# Altium footprint library VL820.PcbLib: 42 footprints (part 2 of 3)
Each footprint in its own frame and in the unit in brackets; x right, y up, seen from the top. Pads: shape width x height; smd on the part's side, far side on the other; paste and mask are expansions set on the pad; w line width, h text height; cw(c..) or ccw(c..) is an arc to the next point about the centre after c.
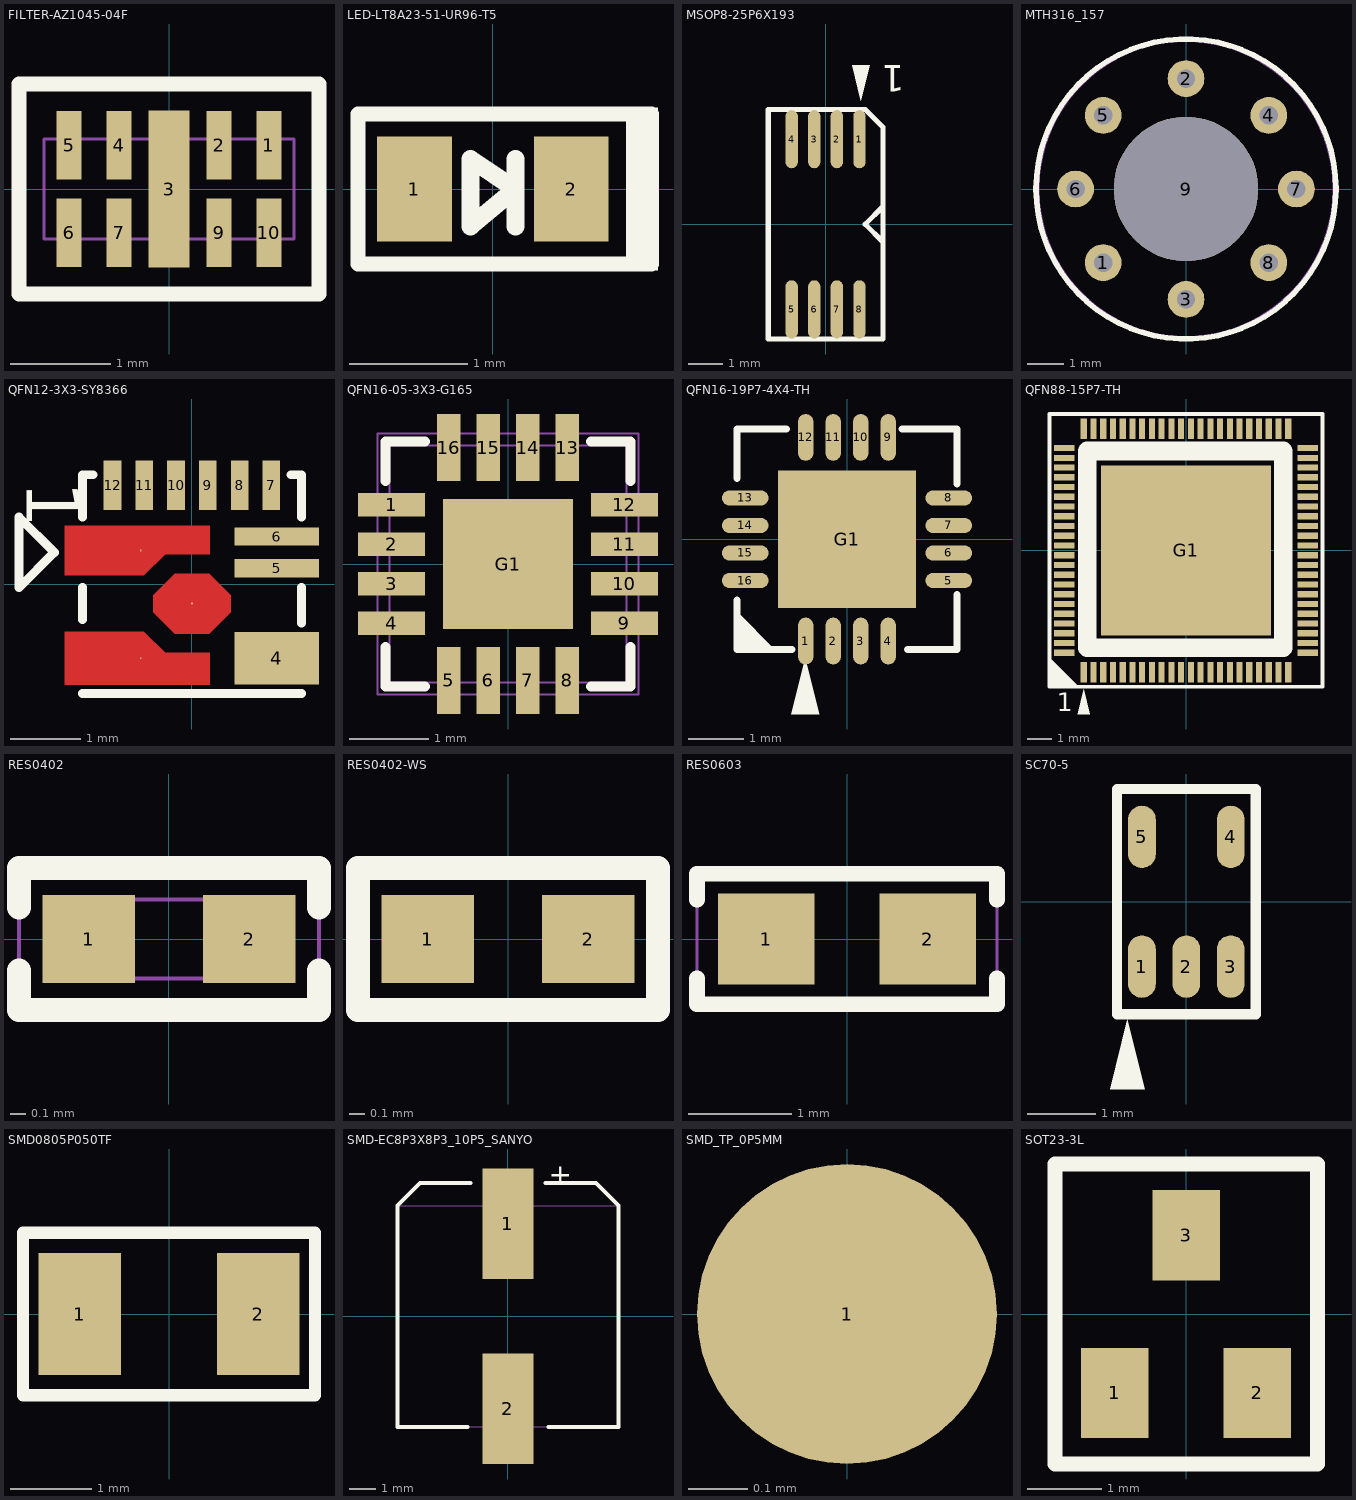
[diagram p1: the footprints below, top view; thin cyan lines are the x and y axes]

## FILTER-AZ1045-04F [mil] "FILTER-AZ1045-04F"
pads (9):
  rect 10x27 smd: 1(39.37,17.22) 2(19.68,17.22) 4(-19.68,17.22) 5(-39.37,17.22) 6(-39.37,-17.22) 7(-19.68,-17.22) 9(19.68,-17.22) 10(39.37,-17.22)
  rect 16x62 smd: 3(0,0)
Top Overlay:
  lines w6: -59.05,0 -59.05,41.34 59.05,41.34 59.05,0 ; -59.05,1.97 -59.05,-41.34 59.05,-41.34 59.05,0.39
Mechanical 8:
  text "v" at 0,8 h20
Mechanical 14:
  text "9" at 19.68,-13.22 h10
  text "2" at 19.68,21.22 h10
  text "1" at 39.37,21.22 h10
  text "6" at -39.37,-13.22 h10
  text "5" at -39.37,21.22 h10
  text "7" at -19.68,-13.22 h10
  text "4" at -19.68,21.22 h10
  text "3" at 3.94,25.32 h10
Mechanical 16:
  lines w1: -49.21,-19.68 -49.21,19.68 49.21,19.68 49.21,-19.68 -49.21,-19.68
3D body "User Library-RCLAMP0524-SLP2510P8.step": height 21.85, standoff -1.16, extent -49.21,-19.88 49.22,19.89

## LED-LT8A23-51-UR96-T5 [mm] "LED-LT8A23-51-UR96-T5"
pads (2):
  rect 0.635x0.889 smd: 1(-0.665,0) 2(0.665,0)
Top Overlay:
  dashed: 1.13,0.69 1.13,-0.69 1.4,-0.69 1.4,0.69
  lines w0.127: -1.143,-0.635 -1.143,0.635 1.343,0.635 1.343,-0.635 -1.143,-0.635
  lines w0.152: 0.191,-0.318 0.191,0.254 ; -0.191,-0.318 0.191,0 -0.191,0.254 -0.191,-0.318
Mechanical 14:
  text "1" at -0.665,-0.102 h0.25
  text "2" at 0.665,-0.102 h0.25
Mechanical 15:
  lines w0.025: -1.143,-0.635 -1.143,0.635 1.143,0.635 1.143,-0.635 -1.143,-0.635
3D body "User Library-SML-LX0603GW-TR.step": height 0.6, standoff 0, extent -0.851,-0.4 0.749,0.4

## MSOP8-25P6X193 [mil] "MSOP8-25P6X193"
pads (8):
  oval 14x66 smd: 1(38.39,96.46) 2(12.8,96.46) 3(-12.8,96.46) 4(-38.39,96.46) 5(-38.39,-96.46) 6(-12.8,-96.46) 7(12.8,-96.46) 8(38.39,-96.46)
Top Overlay:
  dashed: 40,140 50,180 30,180
  lines w6: 65,-20 45,0 65,20 ; -65,-130 65,-130 65,110 45,130 -65,130 -65,-130
  text "1" at 90,180 h30
Mechanical 10:
  text "v" at -4,0 h10
Mechanical 14:
  text "2" at 8.8,96.46 h10
  text "3" at -16.8,96.46 h10
  text "5" at -42.39,-96.46 h10
  text "4" at -42.39,96.46 h10
  text "1" at 34.39,96.46 h10
  text "6" at -16.8,-96.46 h10
  text "7" at 8.8,-96.46 h10
  text "8" at 34.39,-96.46 h10
Mechanical 16:
  lines w1: -65,-130 65,-130 65,110 45,130 -65,130 -65,-130
Mechanical 17:
  text "MSOP8-25P6X193" at 45,0 h10
3D body "User Library-MSOP8-5X3-0.65Pitch-TI.stp": height 38, standoff 0, extent -58.99,-91.5 59,101.5

## MTH316_157 [mil] "MTH316_157"
pads (9):
  round 40 hole 20: 1(-90,-80) 2(0,120) 3(0,-120) 4(90,80) 5(-90,80) 6(-120,0) 7(120,0) 8(90,-80)
  round 157 hole 157 unplated: 9(0,0)
Top Overlay:
  circle w6: c0,0 r163
Mechanical 9:
  text "V" at -20,0 h50
Mechanical 14:
  text "1" at -100,-80 h25
  text "8" at 80,-80 h25
  text "3" at -10,-120 h25
  text "6" at -130,0 h25
  text "5" at -100,80 h25
  text "4" at 80,80 h25
  text "2" at -10,120 h25
  text "7" at 110,0 h25
  text "9" at -10,0 h25
Mechanical 15:
  circle w1: c0,0 r160
3D body "t2crrhms_unc_5_40_0_25_0_25.stp": height 95.9, standoff -246.06, extent -117.99,-117.99 118.01,118.01

## QFN12-3X3-SY8366 [mm] "QFN12-3X3-SY8366"
pads (12):
  oct 0.025x0.025 smd: 1(-0.725,0.475) 2(0,-0.275) 3(-0.725,-1.05)
  rect 1.2x0.75 smd: 4(1.2,-1.05)
  rect 1.2x0.26 smd: 5(1.2,0.225) 6(1.2,0.675)
  rect 0.25x0.7 smd: 7(1.125,1.4) 8(0.675,1.4) 9(0.225,1.4) 10(-0.225,1.4) 11(-0.675,1.4) 12(-1.125,1.4)
Top Layer:
  region: -1.8,-1.425 -1.8,-0.675 -0.68,-0.675 -0.38,-0.975 0.25,-0.975 0.25,-1.425
  region: -1.8,-1.425 -1.8,-0.675 -0.68,-0.675 -0.38,-0.975 0.25,-0.975 0.25,-1.425
  region: -0.245,0.15 -0.55,-0.155 -0.55,-0.396 -0.245,-0.7 0.245,-0.7 0.55,-0.396 0.55,-0.155 0.245,0.15
  region: -0.245,0.15 -0.55,-0.155 -0.55,-0.396 -0.245,-0.7 0.245,-0.7 0.55,-0.396 0.55,-0.155 0.245,0.15
  region: -1.8,0.825 -1.8,0.125 -0.68,0.125 -0.38,0.425 0.25,0.425 0.25,0.825
  region: -1.8,0.825 -1.8,0.125 -0.68,0.125 -0.38,0.425 0.25,0.425 0.25,0.825
Top Overlay:
  lines w0.127: -1.55,-1.55 1.55,-1.55 ; -1.55,-0.5 -1.55,-0.05 ; -1.55,0.95 -1.55,1.55 -1.4,1.55 ; 1.4,1.55 1.55,1.55 1.55,0.95 ; 1.55,-0.55 1.55,-0.05 ; -2.45,-0.05 -1.95,0.45 -2.45,0.95 -2.45,-0.05
  text "1" at -2.34,1.459 h0.76
Top Paste:
  dashed: -1.8,-1.425 -1.8,-0.675 -0.68,-0.675 -0.38,-0.975 0.25,-0.975 0.25,-1.425
  dashed: -1.8,-1.425 -1.8,-0.675 -0.68,-0.675 -0.38,-0.975 0.25,-0.975 0.25,-1.425
  dashed: -0.245,0.15 -0.55,-0.155 -0.55,-0.396 -0.245,-0.7 0.245,-0.7 0.55,-0.396 0.55,-0.155 0.245,0.15
  dashed: -0.245,0.15 -0.55,-0.155 -0.55,-0.396 -0.245,-0.7 0.245,-0.7 0.55,-0.396 0.55,-0.155 0.245,0.15
  dashed: -1.8,0.825 -1.8,0.125 -0.68,0.125 -0.38,0.425 0.25,0.425 0.25,0.825
  dashed: -1.8,0.825 -1.8,0.125 -0.68,0.125 -0.38,0.425 0.25,0.425 0.25,0.825
Top Solder:
  dashed: -1.85,-1.475 -1.85,-0.625 -0.63,-0.625 -0.33,-0.925 0.3,-0.925 0.3,-1.475
  dashed: -1.85,-1.475 -1.85,-0.625 -0.63,-0.625 -0.33,-0.925 0.3,-0.925 0.3,-1.475
  dashed: -0.296,0.2 -0.6,-0.104 -0.6,-0.446 -0.296,-0.75 0.296,-0.75 0.6,-0.446 0.6,-0.104 0.296,0.2
  dashed: -0.296,0.2 -0.6,-0.104 -0.6,-0.446 -0.296,-0.75 0.296,-0.75 0.6,-0.446 0.6,-0.104 0.296,0.2
  dashed: -1.85,0.875 -1.85,0.075 -0.63,0.075 -0.33,0.375 0.3,0.375 0.3,0.875
  dashed: -1.85,0.875 -1.85,0.075 -0.63,0.075 -0.33,0.375 0.3,0.375 0.3,0.875
Mechanical 14:
  text "4" at 1.2,-0.948 h0.25
  text "5" at 1.2,0.327 h0.25
  text "6" at 1.2,0.777 h0.25
  text "1" at -0.725,0.577 h0.25
  text "3" at -0.725,-0.948 h0.25
  text "12" at -1.125,1.603 h0.25
  text "10" at -0.225,1.603 h0.25
  text "9" at 0.225,1.502 h0.25
  text "7" at 1.125,1.502 h0.25
  text "2" at 0,-0.173 h0.25
  text "11" at -0.675,1.603 h0.25
  text "8" at 0.675,1.502 h0.25
3D body: height 0.9, standoff 0, extent -1.8,-1.397 1.778,1.778

## QFN16-05-3X3-G165 [mm] "QFN16-05-3X3-G165"
pads (17):
  rect 0.85x0.3 smd: 1(-1.475,0.75) 2(-1.475,0.25) 3(-1.475,-0.25) 4(-1.475,-0.75) 9(1.475,-0.75) 10(1.475,-0.25) 11(1.475,0.25) 12(1.475,0.75)
  rect 0.3x0.85 smd: 5(-0.75,-1.475) 6(-0.25,-1.475) 7(0.25,-1.475) 8(0.75,-1.475) 13(0.75,1.475) 14(0.25,1.475) 15(-0.25,1.475) 16(-0.75,1.475)
  rect 1.65x1.65 smd: G1(0,0)
Top Overlay:
  lines w0.127: -1.55,-1.05 -1.55,-1.55 -1.05,-1.55 ; -1.55,1.05 -1.55,1.55 -1.05,1.55 ; 1.05,-1.55 1.55,-1.55 1.55,-1.05 ; 1.05,1.55 1.55,1.55 1.55,1.05
Mechanical 5:
  lines w0.025: -1.653,-1.653 -1.653,1.653 1.653,1.653 1.653,-1.653 -1.653,-1.653
Mechanical 7:
  lines w0.025: -1.653,-1.653 -1.653,1.653 1.653,1.653 1.653,-1.653 -1.653,-1.653
Mechanical 14:
  text "11" at 2.134,0 h0.51
  text "12" at 2.134,0.635 h0.51
  text "7" at 0.432,-2.54 h0.51
  text "6" at -0.203,-2.54 h0.51
  text "G1" at -0.178,0 h0.51
  text "3" at -2.743,-0.635 h0.51
  text "1" at -2.743,0.635 h0.51
  text "14" at -0.406,2.54 h0.51
  text "13" at 0.229,2.54 h0.51
  text "2" at -2.743,0 h0.51
  text "16" at -1.676,2.54 h0.51
  text "15" at -1.041,2.54 h0.51
  text "5" at -0.838,-2.54 h0.51
  text "4" at -2.743,-1.27 h0.51
  text "9" at 2.337,-1.27 h0.51
  text "8" at 1.067,-2.54 h0.51
  text "10" at 2.134,-0.635 h0.51
Mechanical 15:
  lines w0.025: -1.5,-1.5 -1.5,1.5 1.5,1.5 1.5,-1.5 -1.5,-1.5
3D body "QFN-16_3x3.STEP": height 0.9, standoff 0, extent -1.549,-1.521 1.493,1.521

## QFN16-19P7-4X4-TH [mm] "QFN16-19P7-4X4-TH"
pads (17):
  oval 0.279x0.85 smd: 1(-0.75,-1.85) 2(-0.25,-1.85) 3(0.25,-1.85) 4(0.75,-1.85) 9(0.75,1.85) 10(0.25,1.85) 11(-0.25,1.85) 12(-0.75,1.85)
  oval 0.85x0.279 smd: 5(1.85,-0.75) 6(1.85,-0.25) 7(1.85,0.25) 8(1.85,0.75) 13(-1.85,0.75) 14(-1.85,0.25) 15(-1.85,-0.25) 16(-1.85,-0.75)
  rect 2.5x2.5 smd: G1(0,0)
Top Overlay:
  dashed: -0.762,-2.159 -1.016,-3.175 -0.508,-3.175
  lines w0.127: -2,-1.1 -2,-1.4 ; -2,1.1 -2,2 -1.1,2 ; -1.8,-2 -2,-1.8 -2,-1.7 -1.7,-2 -1.6,-2 -2,-1.6 -2,-1.5 -1.5,-2 ; -1,-2 -1.4,-2 ; 1,2 2,2 2,1 ; 1.1,-2 2,-2 2,-1 ; -2,-1.4 -1.4,-2 ; -2,-1.4 -2,-2 -1.4,-2
Mechanical 9:
  text "v" at 0,0.102 h0.25
Mechanical 14:
  text "5" at 1.85,-0.648 h0.25
  text "12" at -0.75,2.053 h0.25
  text "1" at -0.75,-1.749 h0.25
  text "11" at -0.25,2.053 h0.25
  text "2" at -0.25,-1.748 h0.25
  text "6" at 1.85,-0.149 h0.25
  text "14" at -1.85,0.453 h0.25
  text "15" at -1.85,-0.047 h0.25
  text "16" at -1.85,-0.547 h0.25
  text "13" at -1.85,0.953 h0.25
  text "8" at 1.85,0.852 h0.25
  text "7" at 1.85,0.352 h0.25
  text "4" at 0.75,-1.748 h0.25
  text "3" at 0.25,-1.749 h0.25
  text "G1" at 0,0.203 h0.25
  text "9" at 0.75,1.952 h0.25
  text "10" at 0.25,2.053 h0.25
Mechanical 15:
  text "QFN16-19P7-4X4-TH" at -1.016,0 h0.25
3D body "QFN16-4X4.STEP": height 0.75, standoff -0.05, extent -2.01,-2.01 2.01,2.01

## QFN88-15P7-TH [mm] "QFN88-15P7-TH"
pads (89):
  rect 0.254x0.85 smd: 1(-4.2,-5) 2(-3.8,-5) 3(-3.4,-5) 4(-3,-5) 5(-2.6,-5) 6(-2.2,-5) 7(-1.8,-5) 8(-1.4,-5) 9(-1,-5) 10(-0.6,-5) 11(-0.2,-5) 12(0.2,-5) 13(0.6,-5) 14(1,-5) 15(1.4,-5) 16(1.8,-5) 17(2.2,-5) 18(2.6,-5) 19(3,-5) 20(3.4,-5) 21(3.8,-5) 22(4.2,-5) 45(4.2,5) 46(3.8,5) 47(3.4,5) 48(3,5) 49(2.6,5) 50(2.2,5) 51(1.8,5) 52(1.4,5) 53(1,5) 54(0.6,5) 55(0.2,5) 56(-0.2,5) 57(-0.6,5) 58(-1,5) 59(-1.4,5) 60(-1.8,5) 61(-2.2,5) 62(-2.6,5) 63(-3,5) 64(-3.4,5) 65(-3.8,5) 66(-4.2,5)
  rect 0.85x0.254 smd: 23(5,-4.2) 24(5,-3.8) 25(5,-3.4) 26(5,-3) 27(5,-2.6) 28(5,-2.2) 29(5,-1.8) 30(5,-1.4) 31(5,-1) 32(5,-0.6) 33(5,-0.2) 34(5,0.2) 35(5,0.6) 36(5,1) 37(5,1.4) 38(5,1.8) 39(5,2.2) 40(5,2.6) 41(5,3) 42(5,3.4) 43(5,3.8) 44(5,4.2) 67(-5,4.2) 68(-5,3.8) 69(-5,3.4) 70(-5,3) 71(-5,2.6) 72(-5,2.2) 73(-5,1.8) 74(-5,1.4) 75(-5,1) 76(-5,0.6) 77(-5,0.2) 78(-5,-0.2) 79(-5,-0.6) 80(-5,-1) 81(-5,-1.4) 82(-5,-1.8) 83(-5,-2.2) 84(-5,-2.6) 85(-5,-3) 86(-5,-3.4) 87(-5,-3.8) 88(-5,-4.2)
  rect 6.985x6.985 smd: G1(0,0)
Top Overlay:
  dashed: -4.2,-5.7 -4.454,-6.716 -3.946,-6.716
  lines w0.152: -5.56,-5.39 -5.36,-5.59 -5.17,-5.59 -5.6,-5.16 -5.6,-4.97 -5,-5.57 -4.96,-5.57 ; -5.6,-4.5 -5.6,-5.6 -4.5,-5.6 ; -5.6,-4.5 -4.5,-5.6 ; -5.6,-4.5 -5.6,5.6 5.6,5.6 5.6,-5.6 -4.5,-5.6 ; -5.56,-4.81 -5.56,-4.68 -4.68,-5.56 -4.81,-5.56 -5.56,-4.81
  lines w0.762: -4.05,-4 -3.8,-4 4,-4 4,4.08 -4.05,4.08 -4.05,-4
  text "1" at -5.3,-6.6 h0.76
Mechanical 9:
  text "V" at -0.203,0 h0.51
Mechanical 14:
  text "37" at 4.797,1.4 h0.25
  text "42" at 4.797,3.4 h0.25
  text "54" at 0.397,5 h0.25
  text "59" at -1.603,5 h0.25
  text "64" at -3.603,5 h0.25
  text "29" at 4.797,-1.8 h0.25
  text "32" at 4.797,-0.6 h0.25
  text "77" at -5.203,0.2 h0.25
  text "16" at 1.597,-5 h0.25
  text "13" at 0.397,-5 h0.25
  text "10" at -0.803,-5 h0.25
  text "5" at -2.701,-5 h0.25
  text "52" at 1.197,5 h0.25
  text "72" at -5.203,2.2 h0.25
  text "26" at 4.797,-3 h0.25
  text "83" at -5.203,-2.2 h0.25
  text "19" at 2.797,-5 h0.25
  text "G1" at -0.203,0 h0.25
  text "67" at -5.203,4.2 h0.25
  text "68" at -5.203,3.8 h0.25
  text "69" at -5.203,3.4 h0.25
  text "70" at -5.203,3 h0.25
  text "71" at -5.203,2.6 h0.25
  text "73" at -5.203,1.8 h0.25
  text "47" at 3.197,5 h0.25
  text "87" at -5.203,-3.8 h0.25
  text "85" at -5.203,-3 h0.25
  text "22" at 3.997,-5 h0.25
  text "46" at 3.597,5 h0.25
  text "48" at 2.797,5 h0.25
  text "88" at -5.203,-4.2 h0.25
  text "86" at -5.203,-3.4 h0.25
  text "23" at 4.797,-4.2 h0.25
  text "45" at 3.997,5 h0.25
  text "78" at -5.203,-0.2 h0.25
  text "76" at -5.203,0.6 h0.25
  text "75" at -5.203,1 h0.25
  text "80" at -5.203,-1 h0.25
  text "82" at -5.203,-1.8 h0.25
  text "79" at -5.203,-0.6 h0.25
  text "81" at -5.203,-1.4 h0.25
  text "53" at 0.797,5 h0.25
  text "60" at -2.003,5 h0.25
  text "61" at -2.403,5 h0.25
  text "63" at -3.203,5 h0.25
  text "62" at -2.803,5 h0.25
  text "6" at -2.302,-5 h0.25
  text "7" at -1.902,-5 h0.25
  text "9" at -1.101,-5 h0.25
  text "8" at -1.502,-5 h0.25
  text "17" at 1.997,-5 h0.25
  text "18" at 2.397,-5 h0.25
  text "30" at 4.797,-1.4 h0.25
  text "31" at 4.797,-1 h0.25
  text "38" at 4.797,1.8 h0.25
  text "39" at 4.797,2.2 h0.25
  text "41" at 4.797,3 h0.25
  text "40" at 4.797,2.6 h0.25
  text "55" at -0.003,5 h0.25
  text "56" at -0.403,5 h0.25
  text "58" at -1.203,5 h0.25
  text "57" at -0.803,5 h0.25
  text "1" at -4.302,-5 h0.25
  text "2" at -3.901,-5 h0.25
  text "4" at -3.102,-5 h0.25
  text "3" at -3.501,-5 h0.25
  text "14" at 0.797,-5 h0.25
  text "15" at 1.197,-5 h0.25
  text "27" at 4.797,-2.6 h0.25
  text "28" at 4.797,-2.2 h0.25
  text "33" at 4.797,-0.2 h0.25
  text "34" at 4.797,0.2 h0.25
  text "36" at 4.797,1 h0.25
  text "35" at 4.797,0.6 h0.25
  text "51" at 1.597,5 h0.25
  text "50" at 1.997,5 h0.25
  text "84" at -5.203,-2.6 h0.25
  text "65" at -4.003,5 h0.25
  text "66" at -4.403,5 h0.25
  text "11" at -0.403,-5 h0.25
  text "12" at -0.003,-5 h0.25
  text "20" at 3.197,-5 h0.25
  text "21" at 3.597,-5 h0.25
  text "24" at 4.797,-3.8 h0.25
  text "25" at 4.797,-3.4 h0.25
  text "43" at 4.797,3.8 h0.25
  text "44" at 4.797,4.2 h0.25
  text "74" at -5.203,1.4 h0.25
  text "49" at 2.397,5 h0.25
Mechanical 15:
  lines w0.025: -5.6,-4.5 -4.5,-5.6 5.6,-5.6 5.6,5.6 -5.6,5.6 -5.6,-4.5
  text "QFN88-15P7-TH" at -3.542,-2 h0.51
3D body "QFN88_Lead.step": height 0.7, standoff 0, extent -5.05,-5.05 5.05,5.05

## RES0402 [mil] "RES0402"
pads (2):
  rect 23x22 smd: 1(-20,0) 2(20,0)
Top Overlay:
  lines w6: -37.4,-7.87 -37.4,-17.72 37.4,-17.72 37.4,-7.87 ; -37.4,7.87 -37.4,17.72 37.4,17.72 37.4,7.87
Mechanical 7:
  lines w1: -19.68,-9.84 19.68,-9.84 19.68,9.84 -19.68,9.84 -19.68,-9.84
Mechanical 14:
  text "1" at -24,0 h10
  text "2" at 16,0 h10
Mechanical 15:
  lines w1: -37.4,-17.72 37.4,-17.72 37.4,17.72 -37.4,17.72 -37.4,-17.72
3D body "User Library-RES_1005-0402.STEP": height 16.14, standoff 0, extent -21.15,-9.83 24.13,11.82

## RES0402-WS [mil] "RES0402-WS"
pads (2):
  rect 23x22 smd: 1(-20,0) 2(20,0)
Top Overlay:
  lines w6: -37.4,-17.72 -37.4,17.72 37.4,17.72 37.4,-17.72 -37.4,-17.72
Mechanical 9:
  text "V" at 8,0 h20
Mechanical 14:
  text "2" at 24,0 h10
  text "1" at -16,0 h10
Mechanical 15:
  lines w1: -37.4,-17.72 -37.4,17.72 37.4,17.72 37.4,-17.72 -37.4,-17.72
3D body "User Library-RES_1005-0402.STEP": height 16.14, standoff 0, extent -21.15,-9.83 24.13,11.82

## RES0603 [mil] "RES0603"
pads (2):
  rect 37x35 smd: 1(-31,0) 2(31,0)
Top Overlay:
  lines w6: -57.5,-15 -57.5,-25 57.5,-25 57.5,-15 ; -57.5,15 -57.5,25 57.5,25 57.5,15
Mechanical 14:
  text "2" at 35,0 h10
  text "1" at -27,0 h10
Mechanical 15:
  lines w1: -57.5,-25 57.5,-25 57.5,25 -57.5,25 -57.5,-25
3D body "0603 SMD Capacitor.step": height 11.89, standoff 0, extent -33.5,-15.5 29.5,16

## SC70-5 [mil] "SC70-5"
pads (5):
  oval 16x36 smd: 1(-25.6,-37.4) 2(0,-37.4) 3(25.6,-37.4) 4(25.6,37.4) 5(-25.6,37.4)
Top Overlay:
  dashed: -34,-68 -44,-108 -24,-108
  lines w6: -40,-65 -40,65 40,65 40,-65 -40,-65
Mechanical 14:
  text "1" at -25.6,-33.4 h10
  text "3" at 25.6,-33.4 h10
  text "5" at -25.6,41.4 h10
  text "2" at 0,-33.4 h10
  text "4" at 25.6,41.4 h10
Mechanical 16:
  lines w1: -40,-65 -40,65 40,65 40,-65 -40,-65
3D body: height 43.31, standoff 0, extent -30.7,-44.3 29.3,45.7

## SMD0805P050TF [mil] "SMD0805P050TF"
pads (2):
  rect 40x59 smd: 1(-43.31,0) 2(43.31,0)
Top Overlay:
  lines w6: -70.87,-39.37 -70.87,39.37 70.87,39.37 70.87,-39.37 -70.87,-39.37
Mechanical 14:
  text "2" at 47.31,0 h10
  text "1" at -39.31,0 h10
Mechanical 15:
  lines w1: -70.87,-39.37 -70.87,39.37 70.87,39.37 70.87,-39.37 -70.87,-39.37
3D body "User Library-D0805.step": height 29.92, standoff 0, extent -45.28,-26.58 45.28,26.58

## SMD-EC8P3X8P3_10P5_SANYO [mm] "SMD-EC8P3X8P3_10P5_SANYO"
pads (2):
  rect 1.905x4.14 smd: 1(0,3.475) 2(0,-3.475)
Top Overlay:
  lines w0.152: -1.524,-4.15 -4.15,-4.15 -4.15,4.15 -3.3,5 -1.4,5 ; 1.4,5 3.3,5 4.15,4.15 4.15,-4.15 1.524,-4.15
  text "+" at 1.524,4.953 h0.76
Mechanical 14:
  text "1" at 0.102,3.475 h0.25
  text "2" at 0.102,-3.475 h0.25
Mechanical 15:
  lines w0.025: -4.15,-4.15 4.15,-4.15 4.15,4.15 -4.15,4.15 -4.15,-4.15
3D body "DTDR_8X10.STEP": height 10.3, standoff -0.2, extent -4.18,-5.535 4.32,4.165

## SMD_TP_0P5MM [mil] "SMD_TP_0P5MM"
pads (1):
  round 20 smd: 1(0,0)
Mechanical 9:
  text "V" at 0,-4 h10
Mechanical 14:
  text "1" at 0,-4 h10

## SOT23-3L [mil] "SOT23-3L"
pads (3):
  rect 36x48 smd: 1(-38,-42) 2(38,-42) 3(0,42)
Top Overlay:
  lines w8: -70,-80 70,-80 70,80 -70,80 -70,-80
Mechanical 14:
  text "3" at 10,42 h25
  text "2" at 48,-42 h25
  text "1" at -28,-42 h25
Mechanical 15:
  lines w1: -70,-80 -70,80 70,80 70,-80 -70,-80
3D body "User Library-SOT95P280X135-3M[SOT23_TO-236AA].STEP": height 51.18, standoff 0, extent -58.97,-60.16 59.15,57.95